# Altium schematic symbol library EG2208.SchLib: 1 symbol
Pins are listed as number, name and electrical type; pins without a type are passive.

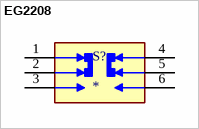
[diagram p0: symbol EG2208]

## EG2208
designator S?
MP: EG2208; MF: {'manufacturer': u'E-Switch'}; Availability: Unavailable; Value: *; Package: None; Price: None
footprint SW_EG2208
pins: 1, 2, 3, 4, 5, 6